# EAGLE library part LTC3105 (library 00_cody)
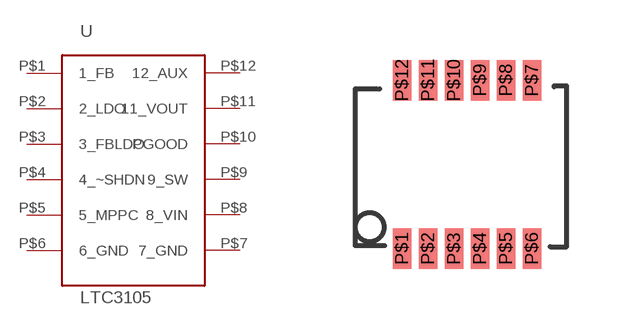
[diagram p149: symbol with the pads of LTC3105; footprint LTC3105]

Designator prefix -

## LTC3105LT  [LTC3105]
P$1  1_FB
P$2  2_LDO
P$3  3_FBLDO
P$4  4_~SHDN
P$5  5_MPPC
P$6  6_GND
P$7  7_GND
P$8  8_VIN
P$9  9_SW
P$10  PGOOD
P$11  11_VOUT
P$12  12_AUX

## Footprint LTC3105 (pad centres in mm)
smd 0.458 x 1.016: P$1 0,0; P$2 0.65,0; P$3 1.3,0; P$4 1.95,0; P$5 2.6,0; P$6 3.25,0; P$7 3.25,4.214; P$8 2.6,4.216; P$9 1.95,4.216; P$10 1.3,4.216; P$11 0.65,4.216; P$12 0,4.216